# Altium footprint library PcbLib1.PcbLib: 21 footprints (part 1 of 2)
Each footprint in its own frame and in the unit in brackets; x right, y up, seen from the top. Pads: shape width x height; smd on the part's side, far side on the other; paste and mask are expansions set on the pad; w line width, h text height; cw(c..) or ccw(c..) is an arc to the next point about the centre after c.
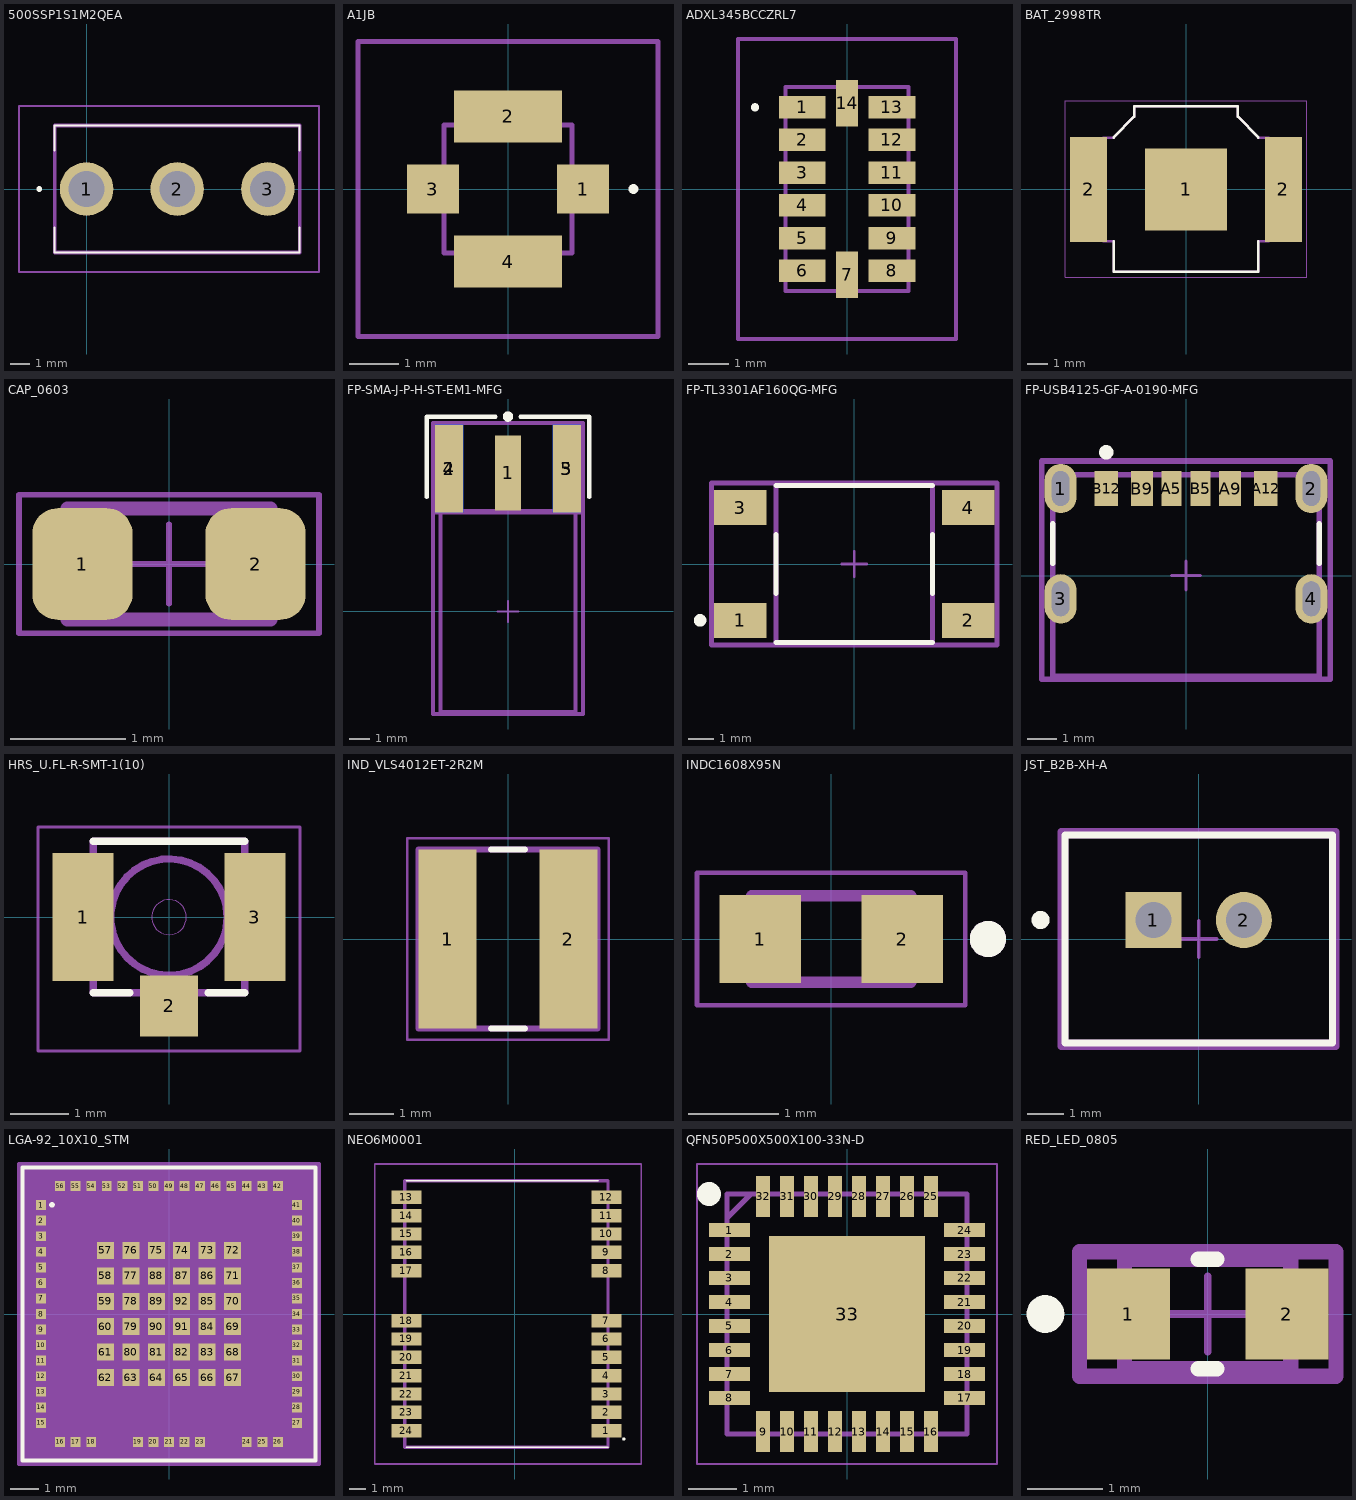
[diagram p0: the footprints below, top view; thin cyan lines are the x and y axes]

## 500SSP1S1M2QEA [mm]
pads (3):
  round 2.775 hole 1.85: 1(0,0) 2(4.7,0) 3(9.4,0)
Top Overlay:
  lines w0.1: -1.65,-3.3 11.05,-3.3 ; -1.65,-3.3 11.05,-3.3 ; -1.65,-3.3 -1.65,-2 -1.65,-3.3 ; -1.65,3.3 -1.65,2 -1.65,3.3 ; -1.65,3.3 11.05,3.3 ; -1.65,3.3 11.05,3.3 ; 11.05,-3.3 11.05,-2 11.05,-3.3 ; 11.05,3.3 11.05,2 11.05,3.3
  lines w0.2: -2.5,0 ccw(c-2.45,0) -2.4,0 ; -2.5,0 cw(c-2.45,0) -2.4,0 ; -2.5,0 ccw(c-2.45,0) -2.4,0
Mechanical 15:
  lines w0.2: -1.65,-3.3 11.05,-3.3 11.05,3.3 -1.65,3.3 -1.65,-3.3
Mechanical 20:
  lines w0.1: -3.5,-4.3 12.05,-4.3 12.05,4.3 -3.5,4.3 -3.5,-4.3
3D body "500SSP1S1M2QEA.stp": height 11.43, standoff -6.6, extent -1.65,-3.3 11.05,3.3

## A1JB [mm]
pads (4):
  rect 1.05x1 smd: 1(1.525,0) 3(-1.525,0)
  rect 2.2x1.05 smd: 2(0,1.475) 4(0,-1.475)
Top Overlay:
  lines w0.1: 2.5,0 ccw(c2.55,0) 2.6,0 ccw(c2.55,0) 2.5,0
Mechanical 15:
  lines w0.1: -1.3,-1.3 -1.3,1.3 1.3,1.3 1.3,-1.3 -1.3,-1.3
Mechanical 20:
  lines w0.1: -3.05,-3 -3.05,3 3.05,3 3.05,-3 -3.05,-3
3D body "A-1JB.stp": height 1.24, standoff -0.01, extent -1.55,-1.5 1.55,1.5

## ADXL345BCCZRL7 [mm] "Accelerometer"
pads (14):
  rect 1.145x0.55 smd: 1(-1.097,2) 2(-1.097,1.2) 3(-1.097,0.4) 4(-1.097,-0.4) 5(-1.097,-1.2) 6(-1.097,-2) 8(1.098,-2) 9(1.098,-1.2) 10(1.098,-0.4) 11(1.098,0.4) 12(1.098,1.2) 13(1.098,2)
  rect 0.55x1.145 smd: 7(0,-2.098) 14(0,2.098)
Top Overlay:
  lines w0.1: -2.3,2 ccw(c-2.25,2) -2.2,2 ccw(c-2.25,2) -2.3,2
Mechanical 15:
  lines w0.1: -1.5,-2.5 -1.5,2.5 1.5,2.5 1.5,-2.5 -1.5,-2.5
Mechanical 20:
  lines w0.1: -2.67,-3.67 -2.67,3.671 2.67,3.671 2.67,-3.67 -2.67,-3.67
3D body "LGA_CC-14-1_ADI.step": height 1.02, standoff 0, extent -1.625,-2.5 1.625,2.5

## BAT_2998TR [mm]
height 3.18
pads (3):
  rect 3.96x3.96 smd paste-3: 1(0,0)
  rect 1.78x5.08 smd: 2(-4.7,0) 2(4.7,0)
Top Overlay:
  lines w0.127: -3.492,-2.5 -3.492,-3.98 3.492,-3.98 3.492,-2.5 ; -3.492,2.5 -2.5,3.518 -2.5,4.02 2.5,4.02 2.5,3.518 3.492,2.5
Mechanical 13:
  lines w0.127: -4,-2.5 -4,2.5 -3.492,2.5 -2.5,3.518 -2.5,4.02 2.5,4.02 2.5,3.518 3.492,2.5 4,2.5 4,-2.5 3.492,-2.5 3.492,-3.98 -3.492,-3.98 -3.492,-2.5 -4,-2.5
Mechanical 15:
  lines w0.05: -5.84,-4.23 5.84,-4.23 5.84,4.27 -5.84,4.27 -5.84,-4.23
3D body "step_temp.STEP": height 3.05, standoff 0, extent -5.357,-4.064 5.357,3.937

## CAP_0603 [mm]
height 1.3
pads (2):
  rrect51% 0.87x0.97 smd mask+0.05: 1(-0.75,0) 2(0.75,0)
Top Assembly:
  lines w0.12: -0.88,-0.48 0.88,-0.48 0.88,0.48 -0.88,0.48 -0.88,-0.48
Top Courtyard:
  lines w0.05: -1.3,-0.6 -1.3,0.6 1.3,0.6 1.3,-0.6 -1.3,-0.6
Top Component Center:
  lines w0.05: -0.345,0 0.345,0 ; 0,-0.345 0,0.345
3D body "CAP-0603.stp": height 0.8, standoff 0, extent -0.8,-0.4 0.8,0.4

## FP-SMA-J-P-H-ST-EM1-MFG [mm]
pads (5):
  rect 1.27x3.6 smd paste+0 mask+0: 1(0,6.66)
  rect 1.35x4.2 smd paste+0 mask+0: 2(-2.825,6.86) 3(2.825,6.86)
  rect 1.35x4.2 smd far side paste+0 mask+0: 4(-2.825,6.86) 5(2.825,6.86)
Top Overlay:
  circle w0.25: c0,9.36 r0.125
  lines w0.2: -3.9,5.5 -3.9,9.35 -0.6,9.35 ; 0.6,9.35 3.9,9.35 3.9,5.5
Top Assembly:
  lines w0.2: -3.6,-4.925 -3.6,9.06 3.6,9.06 3.6,-4.925 -3.6,-4.925
Top Courtyard:
  lines w0.2: -3.6,-4.925 -3.6,9.06 3.6,9.06 3.6,-4.925 -3.6,-4.925
Top 3D Body:
  lines w0.2: -3.6,4.76 3.6,4.76 ; -3.24,-4.825 -3.24,4.825 3.24,4.825 3.24,-4.825 -3.24,-4.825
Top Component Center:
  lines w0.1: -0.5,0 0.5,0 ; 0,-0.5 0,0.5
3D body "Conn_Samtec_SMA-J-P-H-ST-EM1_eec.STEP": height 0.25, standoff 0, extent -3.6,-4.925 3.6,9.06

## FP-TL3301AF160QG-MFG [mm]
pads (4):
  rect 2.1x1.4 smd paste+0 mask+0: 1(-4.55,-2.25) 2(4.55,-2.25) 3(-4.55,2.25) 4(4.55,2.25)
Top Overlay:
  circle w0.25: c-6.15,-2.25 r0.125
  lines w0.2: -3.125,-3.125 3.125,-3.125 ; -3.125,-1.175 -3.125,1.175 ; -3.125,3.125 3.125,3.125 ; 3.125,-1.175 3.125,1.175
Top Assembly:
  lines w0.2: -5.7,-3.225 -5.7,3.225 5.7,3.225 5.7,-3.225 -5.7,-3.225
Top Courtyard:
  lines w0.2: -5.7,-3.225 -5.7,3.225 5.7,3.225 5.7,-3.225 -5.7,-3.225
Top 3D Body:
  lines w0.2: -3.125,-3.125 -3.125,3.125 3.125,3.125 3.125,-3.125 -3.125,-3.125
Top Component Center:
  lines w0.1: -0.5,0 0.5,0 ; 0,-0.5 0,0.5
3D body "Switch_E-Switch_TL3301AF160QG_eec.STEP": height 0.25, standoff 0, extent -5.7,-3.225 5.7,3.225

## FP-USB4125-GF-A-0190-MFG [mm] "Female USB type-C"
pads (10):
  rrect100% 1.1x1.7 hole 1.2 slot 0.6 at 0 deg paste-2539.97 mask+0: 1(-4.32,3) 2(4.32,3) 3(-4.32,-0.8) 4(4.32,-0.8)
  rect 0.7x1.2 smd paste+0 mask+0: A5(-0.5,3) B5(0.5,3)
  rect 0.76x1.2 smd paste+0 mask+0: A9(1.52,3) B9(-1.52,3)
  rect 0.8x1.2 smd paste+0 mask+0: A12(2.75,3) B12(-2.75,3)
Top Overlay:
  circle w0.25: c-2.75,4.25 r0.125
  lines w0.2: -4.595,0.425 -4.595,1.775 ; 4.595,0.425 4.595,1.775
Top Assembly:
  lines w0.2: -4.97,-3.575 -4.97,3.95 4.97,3.95 4.97,-3.575 -4.97,-3.575
Top Courtyard:
  lines w0.2: -4.97,-3.575 -4.97,3.95 4.97,3.95 4.97,-3.575 -4.97,-3.575
Top 3D Body:
  lines w0.2: -4.595,-3.475 -4.595,3.475 4.595,3.475 4.595,-3.475 -4.595,-3.475
Top Component Center:
  lines w0.1: -0.5,0 0.5,0 ; 0,-0.5 0,0.5
3D body "Conn_GCT_USB4125-GF-A-0190_eec.STEP": height 0.25, standoff 0, extent -4.97,-3.575 4.97,3.95

## HRS_U.FL-R-SMT-1(10) [mm]
pads (3):
  rect 1.05x2.2 smd: 1(-1.475,0) 3(1.475,0)
  rect 1x1.05 smd: 2(0,-1.525)
Top Overlay:
  lines w0.127: -1.3,-1.3 -0.67,-1.3 ; -1.3,1.3 1.3,1.3 ; 0.67,-1.3 1.3,-1.3
Mechanical 13:
  circle w0: c0,0 r0.3
  circle w0.127: c0,0 r1
  lines w0.127: -1.3,-1.3 -1.3,1.3 1.3,1.3 1.3,-1.3 -1.3,-1.3
Mechanical 15:
  lines w0.05: -2.25,-2.3 -2.25,1.55 2.25,1.55 2.25,-2.3 -2.25,-2.3
3D body "U.FL-R-SMT-1(10)--3DModel-STEP-56544.STEP": height 1.25, standoff 0, extent -1.5,-1.55 1.5,1.55

## IND_VLS4012ET-2R2M [mm]
height 1.2
pads (2):
  rect 1.3x4 smd: 1(-1.35,0) 2(1.35,0)
Top Overlay:
  lines w0.127: -0.38,-2 0.38,-2 ; -0.38,2 0.38,2
Mechanical 13:
  lines w0.127: -2,-2 2,-2 2,2 -2,2 -2,-2
Mechanical 15:
  lines w0.05: -2.25,-2.25 2.25,-2.25 2.25,2.25 -2.25,2.25 -2.25,-2.25
3D body "step_temp.STEP": height 1.2, standoff 0, extent -2,-2 2,2

## INDC1608X95N [mm]
pads (2):
  rect 0.9x0.97 smd: 1(-0.785,0) 2(0.785,0)
Top Overlay:
  circle w0.2: c1.735,0 r0.1
Mechanical 13:
  circle w0.2: c1.735,0 r0.1
  lines w0.127: -0.88,-0.48 0.88,-0.48 0.88,0.48 -0.88,0.48 -0.88,-0.48
Mechanical 15:
  lines w0.05: -1.485,-0.735 1.485,-0.735 1.485,0.735 -1.485,0.735 -1.485,-0.735

## JST_B2B-XH-A [mm]
height 7
pads (2):
  rect 1.55x1.55 hole 1 paste-2539.97 mask+0: 1(-1.25,0.525)
  round 1.55 hole 1 paste-2539.97 mask+0: 2(1.25,0.525)
Top Overlay:
  circle w0.25: c-4.375,0.525 r0.125
  lines w0.2: -3.7,-2.875 3.7,-2.875 3.7,2.875 -3.7,2.875 -3.7,-2.875
Top Assembly:
  lines w0.2: -3.8,-2.975 3.8,-2.975 3.8,2.975 -3.8,2.975 -3.8,-2.975
Top 3D Body:
  lines w0.2: -3.7,-2.875 3.7,-2.875 3.7,2.875 -3.7,2.875 -3.7,-2.875
Board:
  lines w0.2: -3.8,-2.975 3.8,-2.975 3.8,2.975 -3.8,2.975 -3.8,-2.975
Top Component Center:
  lines w0.1: -0.5,0 0.5,0 ; 0,-0.5 0,0.5
3D body "Conn_JST_B2B-XH-A_LF_SN_eec.STEP": height 0.25, standoff 0, extent -3.8,-2.975 3.8,2.975

## LGA-92_10X10_STM [mm]
pads (92):
  rect 0.35x0.35 smd paste+0 mask+0: 1(-4.525,3.85) 2(-4.525,3.3) 3(-4.525,2.75) 4(-4.525,2.2) 5(-4.525,1.65) 6(-4.525,1.1) 7(-4.525,0.55) 8(-4.525,0) 9(-4.525,-0.55) 10(-4.525,-1.1) 11(-4.525,-1.65) 12(-4.525,-2.2) 13(-4.525,-2.75) 14(-4.525,-3.3) 15(-4.525,-3.85) 16(-3.85,-4.525) 17(-3.3,-4.525) 18(-2.75,-4.525) 19(-1.1,-4.525) 20(-0.55,-4.525) 21(0,-4.525) 22(0.55,-4.525) 23(1.1,-4.525) 24(2.75,-4.525) 25(3.3,-4.525) 26(3.85,-4.525) 27(4.525,-3.85) 28(4.525,-3.3) 29(4.525,-2.75) 30(4.525,-2.2) 31(4.525,-1.65) 32(4.525,-1.1) 33(4.525,-0.55) 34(4.525,0) 35(4.525,0.55) 36(4.525,1.1) 37(4.525,1.65) 38(4.525,2.2) 39(4.525,2.75) 40(4.525,3.3) 41(4.525,3.85) 42(3.85,4.525) 43(3.3,4.525) 44(2.75,4.525) 45(2.2,4.525) 46(1.65,4.525) 47(1.1,4.525) 48(0.55,4.525) 49(0,4.525) 50(-0.55,4.525) 51(-1.1,4.525) 52(-1.65,4.525) 53(-2.2,4.525) 54(-2.75,4.525) 55(-3.3,4.525) 56(-3.85,4.525)
  rect 0.6x0.6 smd paste+0 mask+0: 57(-2.25,2.25) 58(-2.25,1.35) 59(-2.25,0.45) 60(-2.25,-0.45) 61(-2.25,-1.35) 62(-2.25,-2.25) 63(-1.35,-2.25) 64(-0.45,-2.25) 65(0.45,-2.25) 66(1.35,-2.25) 67(2.25,-2.25) 68(2.25,-1.35) 69(2.25,-0.45) 70(2.25,0.45) 71(2.25,1.35) 72(2.25,2.25) 73(1.35,2.25) 74(0.45,2.25) 75(-0.45,2.25) 76(-1.35,2.25) 77(-1.35,1.35) 78(-1.35,0.45) 79(-1.35,-0.45) 80(-1.35,-1.35) 81(-0.45,-1.35) 82(0.45,-1.35) 83(1.35,-1.35) 84(1.35,-0.45) 85(1.35,0.45) 86(1.35,1.35) 87(0.45,1.35) 88(-0.45,1.35) 89(-0.45,0.45) 90(-0.45,-0.45) 91(0.45,-0.45) 92(0.45,0.45)
Top Overlay:
  lines w0.1: -4.188,3.858 ccw(c-4.138,3.858) -4.088,3.858 ccw(c-4.138,3.858) -4.188,3.858
  lines w0.152: -5.177,-5.177 5.177,-5.177 5.177,5.177 -5.177,5.177 -5.177,-5.177
Mechanical 13:
  lines w0.025: -5.05,3.78 -3.78,5.05 ; -5.05,-5.05 -5.05,5.05 5.05,5.05 5.05,-5.05 -5.05,-5.05
Mechanical 15:
  region: -4.279,-5.304 -5.304,-5.304 -5.304,-4.279 -5.304,4.279 -5.304,5.304 -4.279,5.304 4.279,5.304 5.304,5.304 5.304,4.279 5.304,-4.279 5.304,-5.304 4.279,-5.304
  lines w0.152: -5.304,-5.304 -4.279,-5.304 4.279,-5.304 5.304,-5.304 5.304,-4.279 5.304,4.279 5.304,5.304 4.279,5.304 -4.279,5.304 -5.304,5.304 -5.304,4.279 -5.304,-4.279 -5.304,-5.304
3D body "STM32WL5MOCH6TR.stp": height 1.82, standoff -0.03, extent -5,-5 5,5

## NEO6M0001 [mm]
pads (24):
  rect 1.8x0.8 smd: 1(5.5,-7) 2(5.5,-5.9) 3(5.5,-4.8) 4(5.5,-3.7) 5(5.5,-2.6) 6(5.5,-1.5) 7(5.5,-0.4) 8(5.5,2.6) 9(5.5,3.7) 10(5.5,4.8) 11(5.5,5.9) 12(5.5,7) 13(-6.5,7) 14(-6.5,5.9) 15(-6.5,4.8) 16(-6.5,3.7) 17(-6.5,2.6) 18(-6.5,-0.4) 19(-6.5,-1.5) 20(-6.5,-2.6) 21(-6.5,-3.7) 22(-6.5,-4.8) 23(-6.5,-5.9) 24(-6.5,-7)
Top Overlay:
  lines w0.1: -6.5,-8 5.6,-8 ; -6.5,8 5,8 ; 6.5,-7.5 cw(c6.55,-7.5) 6.6,-7.5 cw(c6.55,-7.5) 6.5,-7.5
Mechanical 15:
  lines w0.2: -6.6,-8 -6.6,8 5.6,8 5.6,-8 -6.6,-8
Mechanical 20:
  lines w0.1: -8.4,-9 -8.4,9 7.6,9 7.6,-9 -8.4,-9
3D body "NEO-6M-0-001.stp": height 2.66, standoff 0.02, extent -6.658,-8.3 5.642,8.3

## QFN50P500X500X100-33N-D [mm]
pads (33):
  rect 0.85x0.3 smd: 1(-2.45,1.75) 2(-2.45,1.25) 3(-2.45,0.75) 4(-2.45,0.25) 5(-2.45,-0.25) 6(-2.45,-0.75) 7(-2.45,-1.25) 8(-2.45,-1.75) 17(2.45,-1.75) 18(2.45,-1.25) 19(2.45,-0.75) 20(2.45,-0.25) 21(2.45,0.25) 22(2.45,0.75) 23(2.45,1.25) 24(2.45,1.75)
  rect 0.3x0.85 smd: 9(-1.75,-2.45) 10(-1.25,-2.45) 11(-0.75,-2.45) 12(-0.25,-2.45) 13(0.25,-2.45) 14(0.75,-2.45) 15(1.25,-2.45) 16(1.75,-2.45) 25(1.75,2.45) 26(1.25,2.45) 27(0.75,2.45) 28(0.25,2.45) 29(-0.25,2.45) 30(-0.75,2.45) 31(-1.25,2.45) 32(-1.75,2.45)
  rect 3.25x3.25 smd: 33(0,0)
Top Overlay:
  circle w0.25: c-2.875,2.5 r0.125
Mechanical 15:
  lines w0.1: -2.5,2 -2,2.5 ; -2.5,-2.5 -2.5,2.5 2.5,2.5 2.5,-2.5 -2.5,-2.5
Mechanical 20:
  lines w0.05: -3.125,-3.125 -3.125,3.125 3.125,3.125 3.125,-3.125 -3.125,-3.125

## RED_LED_0805 [mm]
pads (2):
  rect 1.1x1.2 smd paste+0 mask+0.05: 1(-1.05,0) 2(1.05,0)
Top Overlay:
  circle w0.25: c-2.15,0 r0.125
  lines w0.2: -0.125,-0.725 0.125,-0.725 ; -0.125,0.725 0.125,0.725
Top Assembly:
  lines w0.2: -1.7,-0.825 1.7,-0.825 1.7,0.825 -1.7,0.825 -1.7,-0.825
Top Courtyard:
  lines w0.2: -1.7,-0.825 1.7,-0.825 1.7,0.825 -1.7,0.825 -1.7,-0.825
Top 3D Body:
  lines w0.2: -1.1,-0.725 1.1,-0.725 1.1,0.725 -1.1,0.725 -1.1,-0.725
Top Component Center:
  lines w0.1: -0.5,0 0.5,0 ; 0,-0.5 0,0.5
3D body "Diode_Dialight_5988110107F_eec.STEP": height 0.25, standoff 0, extent -1.7,-0.825 1.7,0.825